# Altium integrated library WS-TATV THT Tact Switch 12X12 mm.IntLib: 9 symbols
Pins are listed as number, name and electrical type; pins without a type are passive.

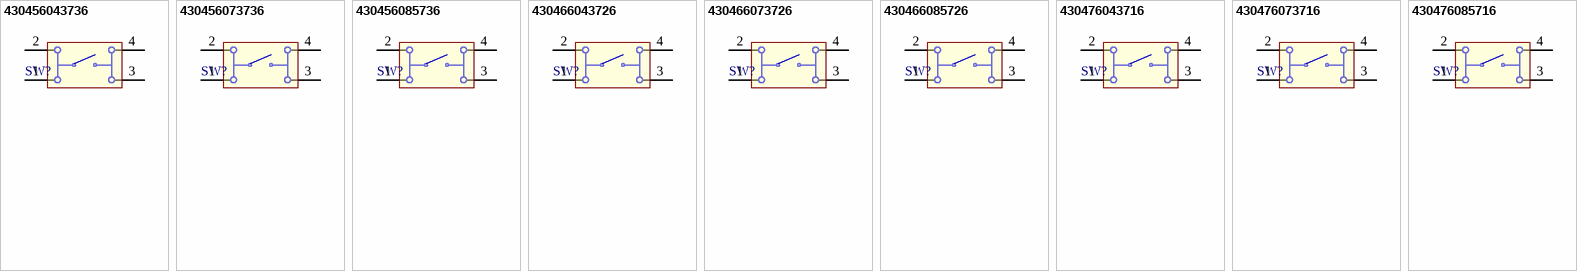
[diagram p0: symbols 430456043736 to 430476085716]

## 430456043736
designator SW?
WS-TATV THT Tact Switch 12X12 mm; PartNumber: 430456043736; NoPins: 04; PackageReference: 430456043736; ComponentLink1Description: Manufacturer URL; ComponentLink1URL: http://www.we-online.com; ComponentLink2Description: Datasheet; ComponentLink2URL: http://katalog.we-online.de/em/datasheet/430456043736.pdf
footprint 430456043736 (12*12mm vertical type,THT,  height 4.3mm, salmon actuator, 360gf, Bulk)
pins: 1, 2, 3, 4

## 430456073736
designator SW?
WS-TATV THT Tact Switch 12X12 mm; PartNumber: 430456073736; NoPins: 04; PackageReference: 430456073736; ComponentLink1Description: Manufacturer URL; ComponentLink1URL: http://www.we-online.com; ComponentLink2Description: Datasheet; ComponentLink2URL: http://katalog.we-online.de/em/datasheet/430456073736.pdf
footprint 430456073736 (12*12mm vertical type,THT,  height 7.3mm, square salmon actuator, 360gf, Bulk)
pins: 1, 2, 3, 4

## 430456085736
designator SW?
WS-TATV THT Tact Switch 12X12 mm; PartNumber: 430456085736; NoPins: 04; PackageReference: 430456085736; ComponentLink1Description: Manufacturer URL; ComponentLink1URL: http://www.we-online.com; ComponentLink2Description: Datasheet; ComponentLink2URL: http://katalog.we-online.de/em/datasheet/430456085736.pdf
footprint 430456085736 (12*12mm vertical type,THT,  height 8.5mm, salmon actuator, 360gf, Bulk)
pins: 1, 2, 3, 4

## 430466043726
designator SW?
WS-TATV THT Tact Switch 12X12 mm; PartNumber: 430466043726; NoPins: 04; PackageReference: 430466043726; ComponentLink1Description: Manufacturer URL; ComponentLink1URL: http://www.we-online.com; ComponentLink2Description: Datasheet; ComponentLink2URL: http://katalog.we-online.de/em/datasheet/430466043726.pdf
footprint 430466043726 (12*12mm vertical type,THT,  height 4.3mm, white actuator, 260gf, Bulk)
pins: 1, 2, 3, 4

## 430466073726
designator SW?
WS-TATV THT Tact Switch 12X12 mm; PartNumber: 430466073726; NoPins: 04; PackageReference: 430466073726; ComponentLink1Description: Manufacturer URL; ComponentLink1URL: http://www.we-online.com; ComponentLink2Description: Datasheet; ComponentLink2URL: http://katalog.we-online.de/em/datasheet/430466073726.pdf
footprint 430466073726 (12*12mm vertical type,THT,  height 7.3mm, square white actuator, 260gf, Bulk)
pins: 1, 2, 3, 4

## 430466085726
designator SW?
WS-TATV THT Tact Switch 12X12 mm; PartNumber: 430466085726; NoPins: 04; PackageReference: 430466085726; ComponentLink1Description: Manufacturer URL; ComponentLink1URL: http://www.we-online.com; ComponentLink2Description: Datasheet; ComponentLink2URL: http://katalog.we-online.de/em/datasheet/430466085726.pdf
footprint 430466085726 (12*12mm vertical type,THT,  height 8.5mm, white actuator, 260gf, Bulk)
pins: 1, 2, 3, 4

## 430476043716
designator SW?
WS-TATV THT Tact Switch 12X12 mm; PartNumber: 430476043716; NoPins: 04; PackageReference: 430476043716; ComponentLink1Description: Manufacturer URL; ComponentLink1URL: http://www.we-online.com; ComponentLink2Description: Datasheet; ComponentLink2URL: http://katalog.we-online.de/em/datasheet/430476043716.pdf
footprint 430476043716 (12*12mm vertical type,THT,  height 4.3mm, white actuator, 160gf, Bulk)
pins: 1, 2, 3, 4

## 430476073716
designator SW?
WS-TATV THT Tact Switch 12X12 mm; PartNumber: 430476073716; NoPins: 04; PackageReference: 430476073716; ComponentLink1Description: Manufacturer URL; ComponentLink1URL: http://www.we-online.com; ComponentLink2Description: Datasheet; ComponentLink2URL: http://katalog.we-online.de/em/datasheet/430476073716.pdf
footprint 430476073716 (12*12mm vertical type,THT,  height 7.3mm, square black actuator, 160gf, Bulk)
pins: 1, 2, 3, 4

## 430476085716
designator SW?
WS-TATV THT Tact Switch 12X12 mm; PartNumber: 430476085716; NoPins: 04; PackageReference: 430476085716; ComponentLink1Description: Manufacturer URL; ComponentLink1URL: http://www.we-online.com; ComponentLink2Description: Datasheet; ComponentLink2URL: http://katalog.we-online.de/em/datasheet/430476085716.pdf
footprint 430476085716 (12*12mm vertical type,THT,  height 8.5mm, black actuator, 160gf, Bulk)
pins: 1, 2, 3, 4